# Altium schematic symbol library UOMP_resistors_0603.SchLib: 45 symbols
Pins are listed as number, name and electrical type; pins without a type are passive.

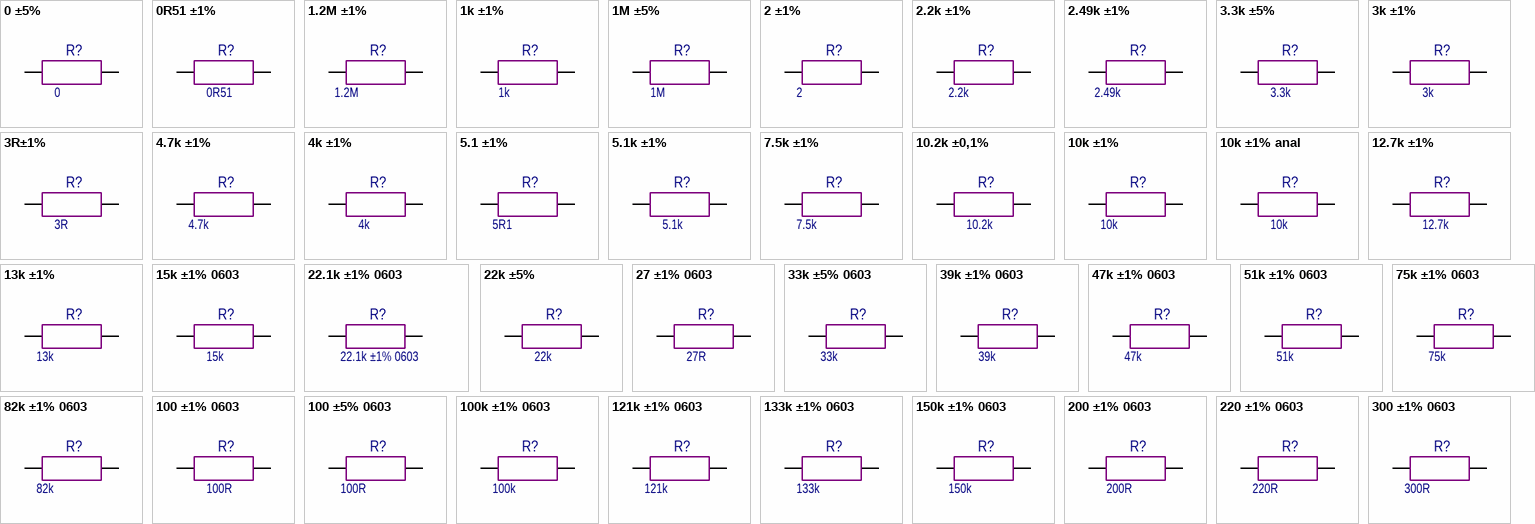
[diagram p0: symbols 0 ±5% to 300 ±1% 0603]

## 0 ±5%
designator R?, comment 0
Code: 6020004221; Name: Резистор RC0603JR-070RL, Yageo
footprint RES: SMD 0603 MD IPC 782
pins: 1, 2

## 0R51 ±1%
designator R?, comment 0R51
Name: Резистор 0R51 ±1% 0603
footprint RES: SMD 0603 MD IPC 782
pins: 1, 2

## 1.2M ±1%
designator R?, comment 1.2M
Code: 6069194591; Name: Резистор 1,2M±1% ТК50 0603
footprint RES: SMD 0603 MD IPC 782
pins: 1, 2

## 1k ±1%
designator R?, comment 1k
Code: 6069174188; Name: Резистор 1k ±1% 0603
footprint RES: SMD 0603 MD IPC 782
pins: 1, 2

## 1M ±5%
designator R?, comment 1M
RC0603JR-071ML; Code: 6020003291; Name: Резистор RC0603JR-071ML
footprint RES: SMD 0603 MD IPC 782
pins: 1, 2

## 2 ±1%
designator R?, comment 2
Code: 6069180891; Name: Резистор 2,2k ±1% 0603
footprint RES: SMD 0603 MD IPC 782
pins: 1, 2

## 2.2k ±1%
designator R?, comment 2.2k
Code: 6069180891; Name: Резистор 2,2k ±1% 0603
footprint RES: SMD 0603 MD IPC 782
pins: 1, 2

## 2.49k ±1%
designator R?, comment 2.49k
Code: 6069174222; Name: Резистор 2,49К ±1% 0603
footprint RES: SMD 0603 MD IPC 782
pins: 1, 2

## 3.3k ±5%
designator R?, comment 3.3k
Parameter 1: *; Parameter 2: *
footprint RES: SMD 0603 MD IPC 782
pins: 1, 2

## 3k ±1%
designator R?, comment 3k
Code: 6094357331; Name: Резистор 3К ±1% 0603
footprint RES: SMD 0603 MD IPC 782
pins: 1, 2

## 3R±1%
designator R?, comment 3R
Code: *; Name: *
footprint RES: SMD 0603 MD IPC 782
pins: 1, 2

## 4.7k ±1%
designator R?, comment 4.7k
Code: 6069174451; Name: Резистор 4.7k ±1% 0603
footprint RES: SMD 0603 MD IPC 782
pins: 1, 2

## 4k ±1%
designator R?, comment 4k
Code: 6027162081; Name: Резистор AC0603FR-074K02L, Yageo
footprint RES: SMD 0603 MD IPC 782
pins: 1, 2

## 5.1 ±1%
designator R?, comment 5R1
Name: Резистор 5R1 ±1% 0603
footprint CAP: SMD 0603 MD IPC 782
pins: 1, 2

## 5.1k ±1%
designator R?, comment 5.1k
Name: Резистор 5.1k ±1% 0603
footprint CAP: SMD 0603 MD IPC 782
pins: 1, 2

## 7.5k ±1%
designator R?, comment 7.5k
Code: 6069181041; Name: Резистор 7,5k±1% 0805
footprint RES: SMD 0603 MD IPC 782
pins: 1, 2

## 10.2k ±0,1%
designator R?, comment 10.2k
Code: 6069447141; Name: Резистор 10,2К ±0,1% 0603
footprint RES: SMD 0603 MD IPC 782
pins: 1, 2

## 10k ±1%
designator R?, comment 10k
Code: 6069191961; Name: Резистор 10K+-1% TK50 0603
footprint RES: SMD 0603 MD IPC 782
pins: 1, 2

## 10k ±1% anal
designator R?, comment 10k
Code: 6069181071; Name: Резистор 10K±1% 0603
footprint RES: SMD 0603 MD IPC 782
pins: 1, 2

## 12.7k ±1%
designator R?, comment 12.7k
Code: 6060001721; Name: Резистор 12,7К ± 1% 0603
footprint RES: SMD 0603 MD IPC 782
pins: 1, 2

## 13k ±1%
designator R?, comment 13k
Code: 6027162071; Name: Резистор RC0603FR-0713KL, Yageo
footprint RES: SMD 0603 MD IPC 782
pins: 1, 2

## 15k ±1% 0603
designator R?, comment 15k
Name: Резистор 15К±1% 0603; Code: 6069181121
footprint RES: SMD 0603 MD IPC 782
pins: 1, 2

## 22.1k ±1% 0603
designator R?
Code: 6060002391; Name: Резистор 22,1К±1% 0603
footprint RES: SMD 0603 MD IPC 782
pins: 1, 2

## 22k ±5%
designator R?, comment 22k
Code: 6069178361; Name: Резистор 22k ±5% 0603
footprint RES: SMD 0603 MD IPC 782
pins: 1, 2

## 27 ±1% 0603
designator R?, comment 27R
Code: 6069180381; Name: Резистор 27R±1% 0603
footprint RES: SMD 0603 MD IPC 782
pins: 1, 2

## 33k ±5% 0603
designator R?, comment 33k
Code: 6069179211; Name: Резистор 33k ±5% 0603
footprint RES: SMD 0603 MD IPC 782
pins: 1, 2

## 39k ±1% 0603
designator R?, comment 39k
Code: 6069180431; Name: Резистор 39K ±1% 0603
footprint RES: SMD 0603 MD IPC 782
pins: 1, 2

## 47k ±1% 0603
designator R?, comment 47k
Code: 6069181251; Name: Резистор 47К±1% 0603
footprint RES: SMD 0603 MD IPC 782
pins: 1, 2

## 51k ±1% 0603
designator R?, comment 51k
Code: 6069181261; Name: Резистор 51K±1% 0603
footprint RES: SMD 0603 MD IPC 782
pins: 1, 2

## 75k ±1% 0603
designator R?, comment 75k
Code: 6069181311; Name: Резистор 75К±1% 0603
footprint RES: SMD 0603 MD IPC 782
pins: 1, 2

## 82k ±1% 0603
designator R?, comment 82k
Code: 6060002261; Name: Резистор 82K±1% 0603
footprint RES: SMD 0603 MD IPC 782
pins: 1, 2

## 100 ±1% 0603
designator R?, comment 100R
Code: 6069180541; Name: Резистор 100R±1%  0603
footprint RES: SMD 0603 MD IPC 782
pins: 1, 2

## 100 ±5% 0603
designator R?, comment 100R
Code: 6027158461; Name: Резистор RC0603JR-07100RL, Yageo
footprint RES: SMD 0603 MD IPC 782
pins: 1, 2

## 100k ±1% 0603
designator R?, comment 100k
Code: 6069193231; Name: Резистор 100К ±1% ТК50 0603
footprint RES: SMD 0603 MD IPC 782
pins: 1, 2

## 121k ±1% 0603
designator R?, comment 121k
Code: 6060001691; Name: Резистор 121K±1% 0603
footprint RES: SMD 0603 MD IPC 782
pins: 1, 2

## 133k ±1% 0603
designator R?, comment 133k
Code: 6027155891; Name: Резистор CRCW0603133KFKEA, Vishay
footprint RES: SMD 0603 MD IPC 782
pins: 1, 2

## 150k ±1% 0603
designator R?, comment 150k
Code: 6069181381; Name: Резистор 150К ±1% 0603
footprint RES: SMD 0603 MD IPC 782
pins: 1, 2

## 200 ±1% 0603
designator R?, comment 200R
0603; Code: 6069180621; Name: Резистор 200R±1% 0603
footprint RES: SMD 0603 MD IPC 782
pins: 1, 2

## 220 ±1% 0603
designator R?, comment 220R
Code: 6027160171; Name: Резистор RC0603FR-07220RL
footprint RES: SMD 0603 MD IPC 782
pins: 1, 2

## 300 ±1% 0603
designator R?, comment 300R
Code: 6069180661; Name: Резистор 300R±1% 0603
footprint RES: SMD 0603 MD IPC 782
pins: 1, 2

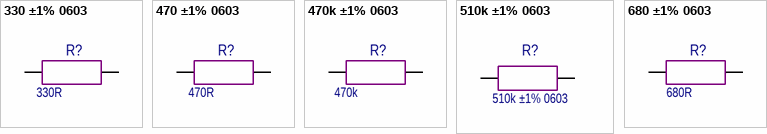
[diagram p1: symbols 330 ±1% 0603 to 680 ±1% 0603]

## 330 ±1% 0603
designator R?, comment 330R
Code: 6069180671; Name: Резистор 330R ±1% 0603
footprint RES: SMD 0603 MD IPC 782
pins: 1, 2

## 470 ±1% 0603
designator R?, comment 470R
Code: 6069180721; Name: Резистор 470R ±1% 0603
footprint RES: SMD 0603 MD IPC 782
pins: 1, 2

## 470k ±1% 0603
designator R?, comment 470k
Code: 6099179621; Name: Резистор 470K±1% 0603
footprint CAP: SMD 0603 MD IPC 782
pins: 1, 2

## 510k ±1% 0603
designator R?
Code: 6069181531; Name: Резистор 510К±1% 0603
footprint RES: SMD 0603 MD IPC 782
pins: 1, 2

## 680 ±1% 0603
designator R?, comment 680R
0603; Code: 6069180761; Name: Резистор 680R ±1% 0603
footprint RES: SMD 0603 MD IPC 782
pins: 1, 2